# Altium footprint library footprints_for _R_L_C_D.PcbLib: 40 footprints (part 1 of 3)
Each footprint in its own frame and in the unit in brackets; x right, y up, seen from the top. Pads: shape width x height; smd on the part's side, far side on the other; paste and mask are expansions set on the pad; w line width, h text height; cw(c..) or ccw(c..) is an arc to the next point about the centre after c.
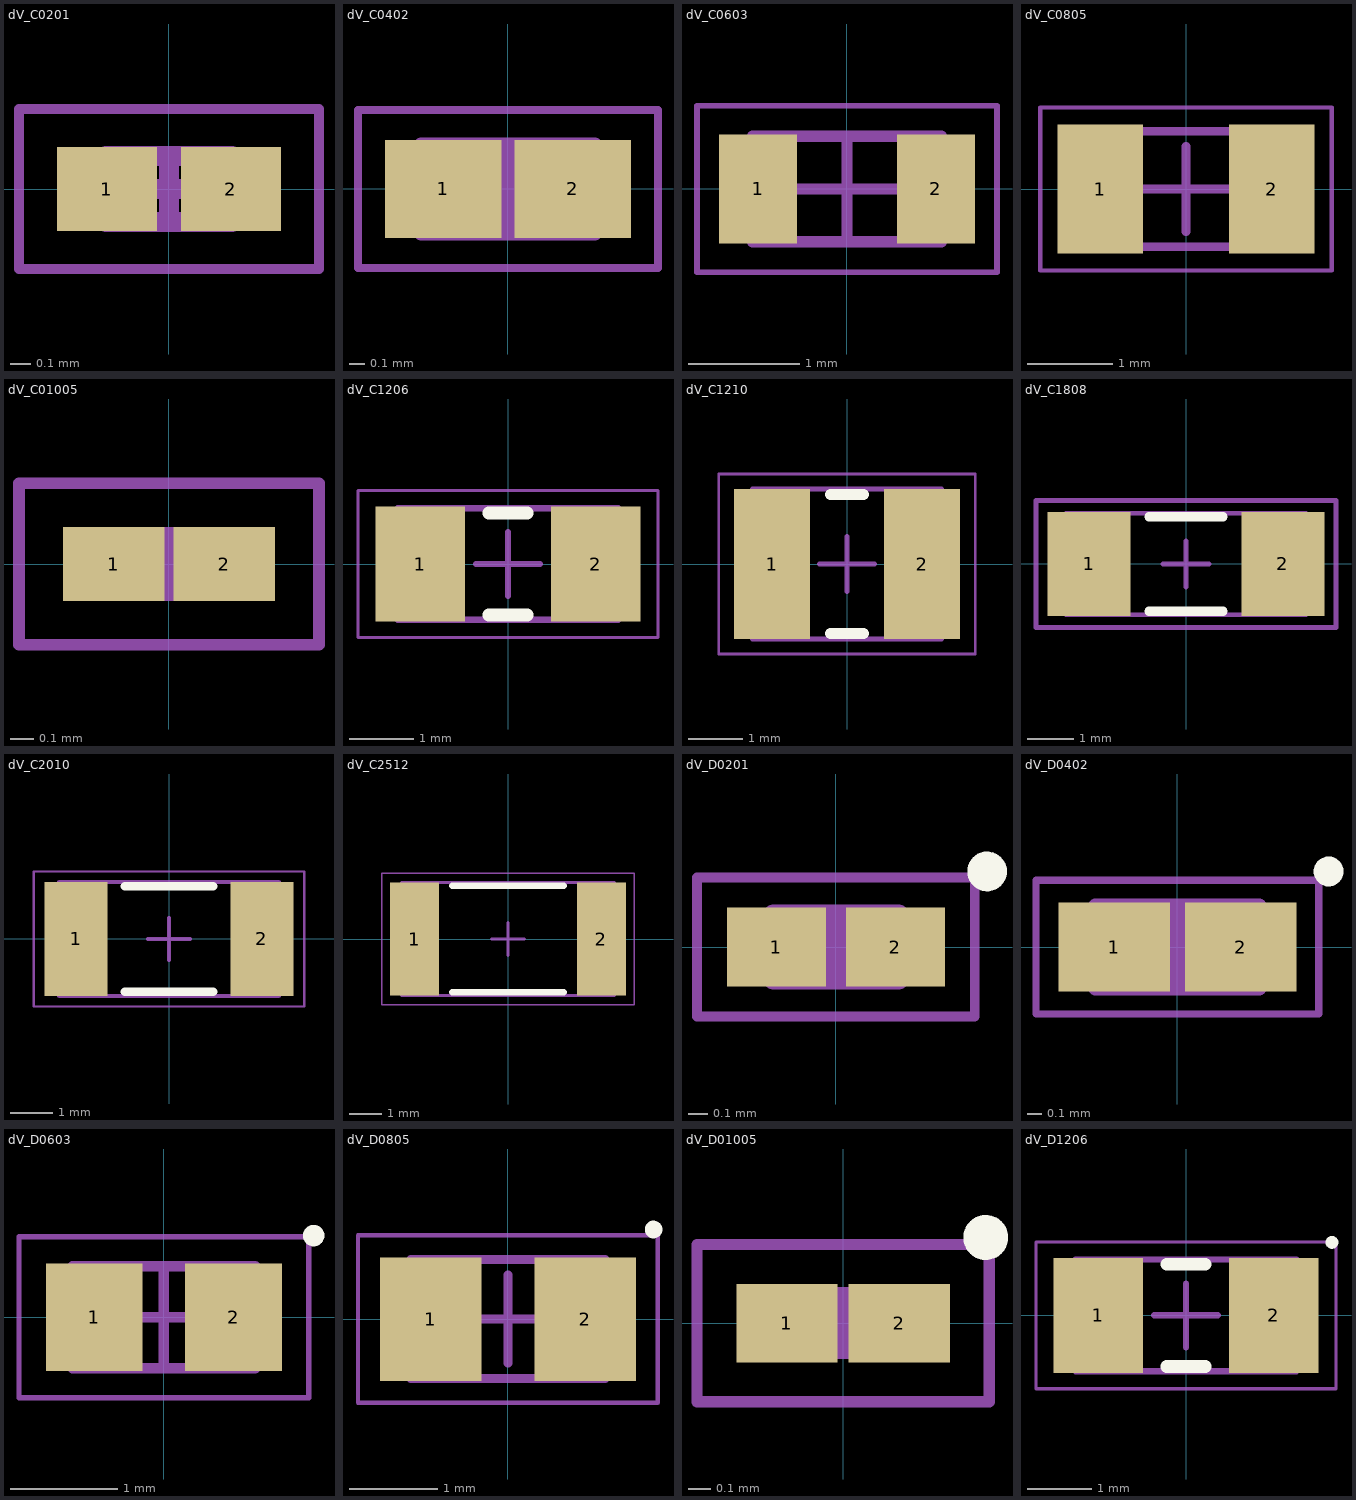
[diagram p0: the footprints below, top view; thin cyan lines are the x and y axes]

## dV_C0201 [mm] "Chip Capacitor, 2-Leads, Body 0.60x0.30mm, IPC Medium Density"
height 0.24
pads (2):
  rect 0.5x0.42 smd: 1(-0.31,0) 2(0.31,0)
Mechanical 13:
  lines w0.1: -0.315,-0.165 -0.315,0.165 0.315,0.165 0.315,-0.165 -0.315,-0.165
Mechanical 15:
  lines w0.05: -0.75,-0.4 -0.75,0.4 0.75,0.4 0.75,-0.4 -0.75,-0.4
  lines w0.1: -0.165,0 0.165,0 ; 0,-0.165 0,0.165
3D body: height 0.24, standoff 0, extent -0.165,-0.165 0.165,0.165
3D body: height 0.24, standoff 0, extent -0.315,-0.165 -0.165,0.165
3D body: height 0.24, standoff 0, extent 0.165,-0.165 0.315,0.165

## dV_C0402 [mm] "Chip Capacitor, 2-Leads, Body 1.00x0.50mm, IPC Medium Density"
height 0.4
pads (2):
  rect 0.74x0.62 smd: 1(-0.41,0) 2(0.41,0)
Mechanical 13:
  lines w0.1: -0.55,-0.275 -0.55,0.275 0.55,0.275 0.55,-0.275 -0.55,-0.275
Mechanical 15:
  lines w0.05: -0.95,-0.5 -0.95,0.5 0.95,0.5 0.95,-0.5 -0.95,-0.5
  lines w0.1: -0.275,0 0.275,0 ; 0,-0.275 0,0.275
3D body: height 0.4, standoff 0, extent -0.3,-0.275 0.3,0.275
3D body: height 0.4, standoff 0, extent -0.55,-0.275 -0.3,0.275
3D body: height 0.4, standoff 0, extent 0.3,-0.275 0.55,0.275

## dV_C0603 [mm] "Chip Capacitor, 2-Leads, Body 1.55x0.82mm, IPC Medium Density"
height 0.55
pads (2):
  rect 0.7x0.98 smd: 1(-0.8,0) 2(0.8,0)
Mechanical 13:
  lines w0.1: -0.85,-0.475 -0.85,0.475 0.85,0.475 0.85,-0.475 -0.85,-0.475
Mechanical 15:
  lines w0.05: -1.35,-0.75 -1.35,0.75 1.35,0.75 1.35,-0.75 -1.35,-0.75
  lines w0.1: -0.475,0 0.475,0 ; 0,-0.475 0,0.475
3D body: height 0.55, standoff 0, extent -0.55,-0.475 0.55,0.475
3D body: height 0.55, standoff 0, extent -0.85,-0.475 -0.55,0.475
3D body: height 0.55, standoff 0, extent 0.55,-0.475 0.85,0.475

## dV_C0805 [mm] "Chip Capacitor, 2-Leads, Body 2.00x1.25mm, IPC Medium Density"
height 0.65
pads (2):
  rect 1x1.5 smd: 1(-1,0) 2(1,0)
Mechanical 13:
  lines w0.1: -1.1,-0.675 -1.1,0.675 1.1,0.675 1.1,-0.675 -1.1,-0.675
Mechanical 15:
  lines w0.05: -1.7,-0.95 -1.7,0.95 1.7,0.95 1.7,-0.95 -1.7,-0.95
  lines w0.1: -0.5,0 0.5,0 ; 0,-0.5 0,0.5
3D body: height 0.65, standoff 0, extent -0.75,-0.675 0.75,0.675
3D body: height 0.65, standoff 0, extent -1.1,-0.675 -0.75,0.675
3D body: height 0.65, standoff 0, extent 0.75,-0.675 1.1,0.675

## dV_C01005 [mm] "Chip Capacitor, 2-Leads, Body 0.40x0.20mm, IPC Medium Density"
height 0.15
pads (2):
  rect 0.44x0.32 smd: 1(-0.24,0) 2(0.24,0)
Mechanical 13:
  lines w0.1: -0.21,-0.11 0.21,-0.11 0.21,0.11 -0.21,0.11 -0.21,-0.11
Mechanical 15:
  lines w0.05: -0.65,-0.35 0.65,-0.35 0.65,0.35 -0.65,0.35 -0.65,-0.35
  lines w0.1: -0.11,0 0.11,0 ; 0,-0.11 0,0.11
3D body: height 0.15, standoff 0, extent 0.11,-0.11 0.21,0.11
3D body: height 0.15, standoff 0, extent -0.21,-0.11 -0.11,0.11
3D body: height 0.15, standoff 0, extent -0.11,-0.11 0.11,0.11

## dV_C1206 [mm] "Chip Capacitor, 2-Leads, Body 3.20x1.60mm, IPC Medium Density"
height 0.7
pads (2):
  rect 1.4x1.8 smd: 1(-1.375,0) 2(1.375,0)
Top Overlay:
  lines w0.2: -0.3,-0.8 0.3,-0.8 ; -0.3,0.8 0.3,0.8
Mechanical 13:
  lines w0.1: -1.725,-0.875 1.725,-0.875 1.725,0.875 -1.725,0.875 -1.725,-0.875
Mechanical 15:
  lines w0.05: -2.35,-1.15 2.35,-1.15 2.35,1.15 -2.35,1.15 -2.35,-1.15
  lines w0.1: -0.5,0 0.5,0 ; 0,-0.5 0,0.5
3D body: height 0.7, standoff 0, extent 1.225,-0.875 1.725,0.875
3D body: height 0.7, standoff 0, extent -1.725,-0.875 -1.225,0.875
3D body: height 0.7, standoff 0, extent -1.225,-0.875 1.225,0.875

## dV_C1210 [mm] "Chip Capacitor, 2-Leads, Body 3.20x2.50mm, IPC Medium Density"
height 0.7
pads (2):
  rect 1.4x2.75 smd: 1(-1.375,0) 2(1.375,0)
Top Overlay:
  lines w0.2: -0.3,-1.275 0.3,-1.275 ; -0.3,1.275 0.3,1.275
Mechanical 13:
  lines w0.1: -1.725,-1.375 1.725,-1.375 1.725,1.375 -1.725,1.375 -1.725,-1.375
Mechanical 15:
  lines w0.05: -2.35,-1.65 2.35,-1.65 2.35,1.65 -2.35,1.65 -2.35,-1.65
  lines w0.1: -0.5,0 0.5,0 ; 0,-0.5 0,0.5
3D body: height 0.7, standoff 0, extent 1.225,-1.375 1.725,1.375
3D body: height 0.7, standoff 0, extent -1.725,-1.375 -1.225,1.375
3D body: height 0.7, standoff 0, extent -1.225,-1.375 1.225,1.375

## dV_C1808 [mm]
height 1.6
pads (2):
  rect 1.8x2.25 smd: 1(-2.1,0) 2(2.1,0)
Top Overlay:
  lines w0.2: -0.8,-1.025 0.8,-1.025 ; -0.8,1.025 0.8,1.025
Mechanical 13:
  lines w0.1: -2.6,-1.1 -2.6,1.1 2.6,1.1 2.6,-1.1 -2.6,-1.1
Mechanical 15:
  lines w0.1: -0.5,0 0.5,0 ; 0,-0.5 0,0.5 ; -3.25,-1.375 -3.25,1.375 3.25,1.375 3.25,-1.375 -3.25,-1.375
3D body: height 1.6, standoff 0, extent -2.6,-1.1 2.6,1.1

## dV_C2010 [mm] "Chip Capacitor, 2-Leads, Body 5.00x2.50mm, IPC Medium Density"
height 0.7
pads (2):
  rect 1.5x2.7 smd: 1(-2.2,0) 2(2.2,0)
Top Overlay:
  lines w0.2: -1.05,-1.25 1.05,-1.25 ; -1.05,1.25 1.05,1.25
Mechanical 13:
  lines w0.1: -2.6,-1.35 -2.6,1.35 2.6,1.35 2.6,-1.35 -2.6,-1.35
Mechanical 15:
  lines w0.05: -3.2,-1.6 -3.2,1.6 3.2,1.6 3.2,-1.6 -3.2,-1.6
  lines w0.1: -0.5,0 0.5,0 ; 0,-0.5 0,0.5
3D body: height 0.7, standoff 0, extent -2,-1.35 2,1.35
3D body: height 0.7, standoff 0, extent -2.6,-1.35 -2,1.35
3D body: height 0.7, standoff 0, extent 2,-1.35 2.6,1.35

## dV_C2512 [mm] "Chip Capacitor, 2-Leads, Body 6.30x3.20mm, IPC Medium Density"
height 0.7
pads (2):
  rect 1.5x3.45 smd: 1(-2.85,0) 2(2.85,0)
Top Overlay:
  lines w0.2: -1.7,-1.625 1.7,-1.625 ; -1.7,1.625 1.7,1.625
Mechanical 13:
  lines w0.1: -3.25,-1.725 3.25,-1.725 3.25,1.725 -3.25,1.725 -3.25,-1.725
Mechanical 15:
  lines w0.05: -3.85,-2 3.85,-2 3.85,2 -3.85,2 -3.85,-2
  lines w0.1: -0.5,0 0.5,0 ; 0,-0.5 0,0.5
3D body: height 0.7, standoff 0, extent 2.65,-1.725 3.25,1.725
3D body: height 0.7, standoff 0, extent -3.25,-1.725 -2.65,1.725
3D body: height 0.7, standoff 0, extent -2.65,-1.725 2.65,1.725

## dV_D0201 [mm] "Chip Diode, 2-Leads, Body 0.60x0.30mm, IPC Medium Density"
height 0.24
pads (2):
  rect 0.5x0.4 smd: 1(-0.3,0) 2(0.3,0)
Top Overlay:
  circle w0.1: c0.762,0.381 r0.05
Mechanical 13:
  lines w0.1: -0.315,-0.165 0.315,-0.165 0.315,0.165 -0.315,0.165 -0.315,-0.165
Mechanical 15:
  lines w0.05: -0.7,-0.35 0.7,-0.35 0.7,0.35 -0.7,0.35 -0.7,-0.35
  lines w0.1: -0.165,0 0.165,0 ; 0,-0.165 0,0.165
3D body: height 0.24, standoff 0, extent 0.165,-0.165 0.315,0.165
3D body: height 0.24, standoff 0, extent -0.315,-0.165 -0.165,0.165
3D body: height 0.24, standoff 0, extent -0.165,-0.165 0.165,0.165

## dV_D0402 [mm] "Chip Diode, 2-Leads, Body 1.00x0.50mm, IPC Medium Density"
height 0.4
pads (2):
  rect 0.75x0.6 smd: 1(-0.425,0) 2(0.425,0)
Top Overlay:
  circle w0.1: c1.016,0.508 r0.05
Mechanical 13:
  lines w0.1: -0.55,-0.275 0.55,-0.275 0.55,0.275 -0.55,0.275 -0.55,-0.275
Mechanical 15:
  lines w0.05: -0.95,-0.45 0.95,-0.45 0.95,0.45 -0.95,0.45 -0.95,-0.45
  lines w0.1: -0.275,0 0.275,0 ; 0,-0.275 0,0.275
3D body: height 0.4, standoff 0, extent 0.3,-0.275 0.55,0.275
3D body: height 0.4, standoff 0, extent -0.55,-0.275 -0.3,0.275
3D body: height 0.4, standoff 0, extent -0.3,-0.275 0.3,0.275

## dV_D0603 [mm] "Chip Diode, 2-Leads, Body 1.55x0.82mm, IPC Medium Density"
height 0.55
pads (2):
  rect 0.9x1 smd: 1(-0.65,0) 2(0.65,0)
Top Overlay:
  circle w0.1: c1.397,0.762 r0.05
Mechanical 13:
  lines w0.1: -0.85,-0.475 0.85,-0.475 0.85,0.475 -0.85,0.475 -0.85,-0.475
Mechanical 15:
  lines w0.05: -1.35,-0.75 1.35,-0.75 1.35,0.75 -1.35,0.75 -1.35,-0.75
  lines w0.1: -0.475,0 0.475,0 ; 0,-0.475 0,0.475
3D body: height 0.55, standoff 0, extent 0.55,-0.475 0.85,0.475
3D body: height 0.55, standoff 0, extent -0.85,-0.475 -0.55,0.475
3D body: height 0.55, standoff 0, extent -0.55,-0.475 0.55,0.475

## dV_D0805 [mm] "Chip Diode, 2-Leads, Body 2.00x1.25mm, IPC Medium Density"
height 0.65
pads (2):
  rect 1.15x1.4 smd: 1(-0.875,0) 2(0.875,0)
Top Overlay:
  circle w0.1: c1.651,1.016 r0.05
Mechanical 13:
  lines w0.1: -1.1,-0.675 -1.1,0.675 1.1,0.675 1.1,-0.675 -1.1,-0.675
Mechanical 15:
  lines w0.05: -1.7,-0.95 -1.7,0.95 1.7,0.95 1.7,-0.95 -1.7,-0.95
  lines w0.1: -0.5,0 0.5,0 ; 0,-0.5 0,0.5
3D body: height 0.65, standoff 0, extent -0.75,-0.675 0.75,0.675
3D body: height 0.65, standoff 0, extent -1.1,-0.675 -0.75,0.675
3D body: height 0.65, standoff 0, extent 0.75,-0.675 1.1,0.675

## dV_D01005 [mm] "Chip Diode, 2-Leads, Body 0.40x0.20mm, IPC Medium Density"
height 0.15
pads (2):
  rect 0.45x0.35 smd: 1(-0.25,0) 2(0.25,0)
Top Overlay:
  circle w0.1: c0.635,0.381 r0.05
Mechanical 13:
  lines w0.1: -0.21,-0.11 -0.21,0.11 0.21,0.11 0.21,-0.11 -0.21,-0.11
Mechanical 15:
  lines w0.05: -0.65,-0.35 -0.65,0.35 0.65,0.35 0.65,-0.35 -0.65,-0.35
  lines w0.1: -0.11,0 0.11,0 ; 0,-0.11 0,0.11
3D body: height 0.15, standoff 0, extent -0.11,-0.11 0.11,0.11
3D body: height 0.15, standoff 0, extent -0.21,-0.11 -0.11,0.11
3D body: height 0.15, standoff 0, extent 0.11,-0.11 0.21,0.11

## dV_D1206 [mm] "Chip Diode, 2-Leads, Body 3.20x1.60mm, IPC Medium Density"
height 0.7
pads (2):
  rect 1.4x1.8 smd: 1(-1.375,0) 2(1.375,0)
Top Overlay:
  circle w0.1: c2.286,1.143 r0.05
  lines w0.2: -0.3,-0.8 0.3,-0.8 ; -0.3,0.8 0.3,0.8
Mechanical 13:
  lines w0.1: -1.725,-0.875 1.725,-0.875 1.725,0.875 -1.725,0.875 -1.725,-0.875
Mechanical 15:
  lines w0.05: -2.35,-1.15 2.35,-1.15 2.35,1.15 -2.35,1.15 -2.35,-1.15
  lines w0.1: -0.5,0 0.5,0 ; 0,-0.5 0,0.5
3D body: height 0.7, standoff 0, extent 1.225,-0.875 1.725,0.875
3D body: height 0.7, standoff 0, extent -1.725,-0.875 -1.225,0.875
3D body: height 0.7, standoff 0, extent -1.225,-0.875 1.225,0.875